# EAGLE library part HDR-2X6 (library Mechanical)
2x6 header with 42mil holes and 100mil spacing
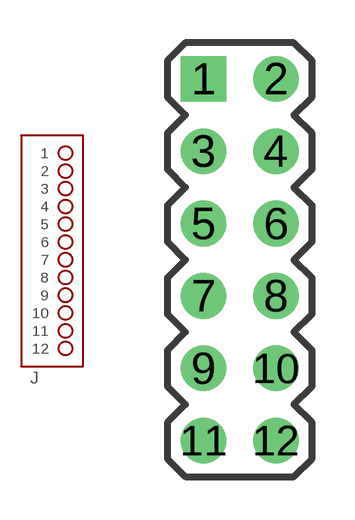
[diagram p37: symbol with the pads of HDR-2X6; footprint HDR-2X6]

Designator prefix J

## HDR-2X6  [HDR-2X6]
1  1  pas
2  2  pas
3  3  pas
4  4  pas
5  5  pas
6  6  pas
7  7  pas
8  8  pas
9  9  pas
10  10  pas
11  11  pas
12  12  pas

## Footprint HDR-2X6 (pad centres in mm)
drill 1.067 square: 1 -1.27,6.35
drill 1.067: 2 1.27,6.35; 3 -1.27,3.81; 4 1.27,3.81; 5 -1.27,1.27; 6 1.27,1.27; 7 -1.27,-1.27; 8 1.27,-1.27; 9 -1.27,-3.81; 10 1.27,-3.81; 11 -1.27,-6.35; 12 1.27,-6.35